# EAGLE library part B3F-40XX-LED (library MCE_Switches)
SWITCH with LED
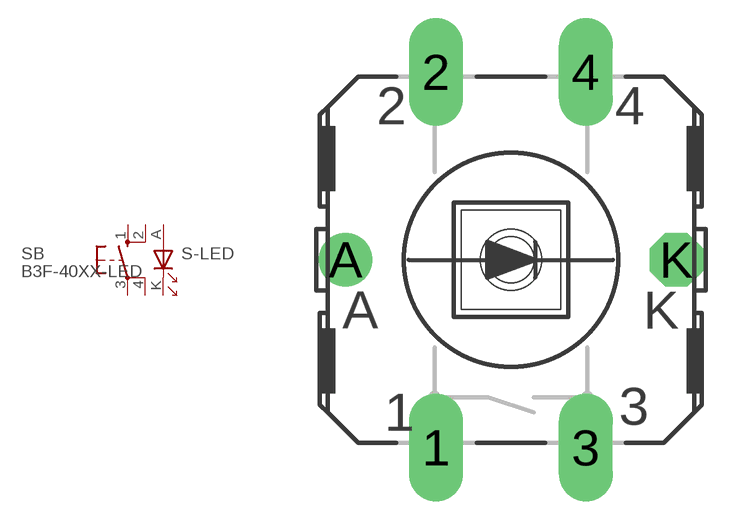
[diagram p0: symbol with the pads of B3F-40XX-LED; footprint B3F-40XX-LED]

Designator prefix S; gates -LED=LED B=TS

## B3F-40XX-LED  [B3F-40XX-LED]
1  B:S  pas
2  B:S1  pas
3  B:P  pas
4  B:P1  pas
A  -LED:A  pas
K  -LED:K  pas

## Footprint B3F-40XX-LED (pad centres in mm)
OMRON SWITCH
drill 1.194 long: 1 -2.489,-6.248; 2 -2.489,6.248; 3 2.489,-6.248; 4 2.489,6.248
drill 0.9 pad 1.778: A -5.5,0
drill 0.9 pad 1.778 octagon: K 5.5,0